# Altium footprint library 430450622.PcbLib: 1 footprints
Each footprint in its own frame and in the unit in brackets; x right, y up, seen from the top. Pads: shape width x height; smd on the part's side, far side on the other; paste and mask are expansions set on the pad; w line width, h text height; cw(c..) or ccw(c..) is an arc to the next point about the centre after c.
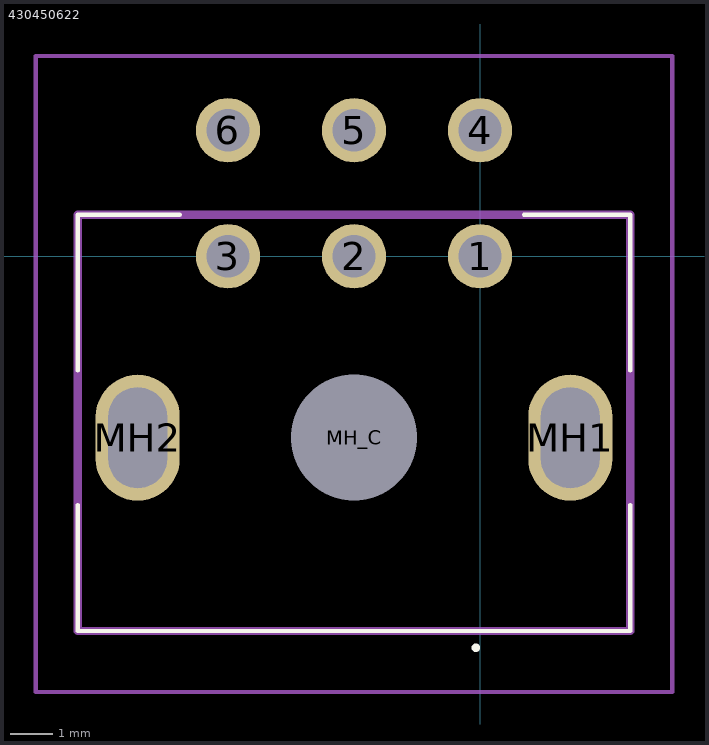
[diagram p0: the footprint, top view; thin cyan lines are the x and y axes]

## 430450622 [mm]
pads (9):
  round 1.53 hole 1.02: 1(0,0) 2(-3,0) 3(-6,0) 4(0,3) 5(-3,3) 6(-6,3)
  oval 2x3 hole 1.4 slot 2.4 at 90 deg: MH1(2.15,-4.32) MH2(-8.15,-4.32)
  round 1.524 hole 3: MH_C(-3,-4.32)
Top Overlay:
  lines w0.1: -9.575,-5.92 -9.575,-8.92 3.575,-8.92 3.575,-5.92 ; -9.575,-2.72 -9.575,0.99 -7.15,0.99 ; 1.05,0.99 3.575,0.99 3.575,-2.72 ; -0.15,-9.32 ccw(c-0.1,-9.32) -0.05,-9.32 ccw(c-0.1,-9.32) -0.15,-9.32
Mechanical 13:
  lines w0.2: -9.575,-8.92 3.575,-8.92 3.575,0.99 -9.575,0.99 -9.575,-8.92
Mechanical 15:
  lines w0.1: -10.575,-10.37 4.575,-10.37 4.575,4.765 -10.575,4.765 -10.575,-10.37
3D body "43045-0622.stp": height 8.83, standoff -3.12, extent -9.625,-8.95 3.575,3.29